# Altium footprint library simplex_3.PcbLib: 39 footprints (part 3 of 3)
Each footprint in its own frame and in the unit in brackets; x right, y up, seen from the top. Pads: shape width x height; smd on the part's side, far side on the other; paste and mask are expansions set on the pad; w line width, h text height; cw(c..) or ccw(c..) is an arc to the next point about the centre after c.
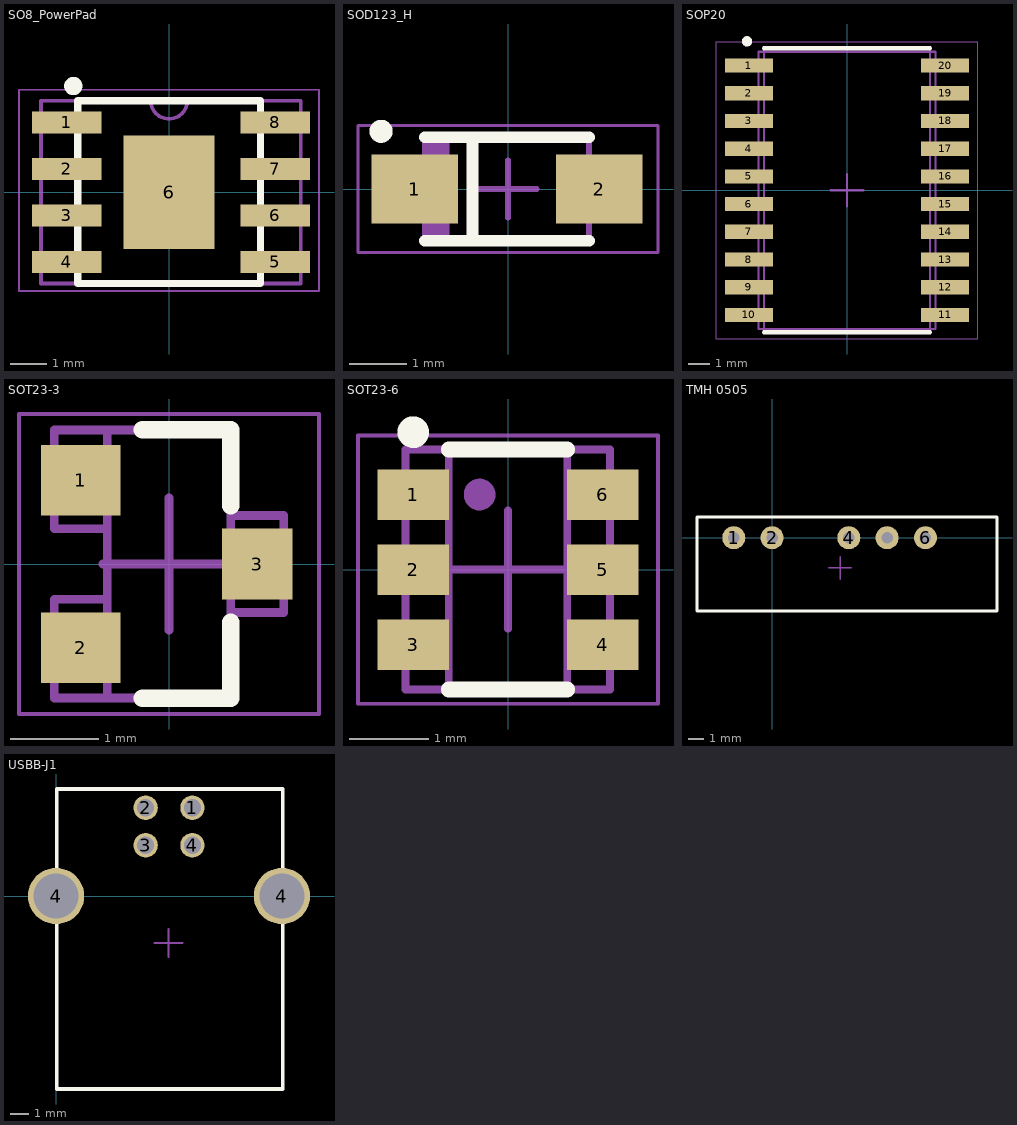
[diagram p2: the footprints below, top view; thin cyan lines are the x and y axes]

## SO8_PowerPad [mm]
pads (9):
  rect 1.9x0.6 smd: 1(-2.8,1.905) 2(-2.8,0.635) 3(-2.8,-0.635) 4(-2.8,-1.905) 5(2.9,-1.905) 6(2.9,-0.635) 7(2.9,0.635) 8(2.9,1.905)
  rect 2.49x3.1 smd: 6(0,0)
Top Overlay:
  circle w0.25: c-2.615,2.9 r0.125
  lines w0.2: -2.49,-2.5 -2.49,2.5 2.5,2.5 2.5,-2.5 -2.49,-2.5
Mechanical 9:
  text ".Designator" at -1,0.25 h1
  text ".Comment" at -1,-0.5 h0.8
Mechanical 11:
  lines w0.1: -2.5,-2.5 -2.5,2.5 ; -0.5,2.5 ccw(c0,2.5) 0.5,2.5 ; 2.5,-2.5 2.5,2.5 ; -3.5,-2.5 -3.5,2.5 3.6,2.5 3.6,-2.5 -3.5,-2.5
Mechanical 15:
  lines w0.05: -4.1,-2.7 4.1,-2.7 4.1,2.8 -4.1,2.8 -4.1,-2.7
  lines w0.1: -0.75,0 0.75,0 ; 0,-0.75 0,0.75
3D body: height 1.7, standoff 0, extent -3,-2.54 3,2.54

## SOD123_H [mm]
height 1.35
pads (2):
  rect 1.5x1.2 smd: 1(-1.62,0) 2(1.58,0)
Top Overlay:
  circle w0.2: c-2.2,1 r0.1
  lines w0.2: -1.445,-0.9 1.405,-0.9 ; -1.445,0.9 1.405,0.9 ; -0.615,-0.9 -0.615,0.9
Mechanical 9:
  text ".Designator" at -1,0.25 h1
  text ".Comment" at -1,-0.75 h0.8
Mechanical 11:
  lines w0.1: -1.445,-0.35 -1.945,-0.35 -1.945,0.35 -1.445,0.35 ; -1.35,-0.9 -1.35,0.9 ; -1.255,-0.9 -1.255,0.9 ; -1.16,-0.9 -1.16,0.9 ; -1.065,-0.9 -1.065,0.9 ; 1.405,-0.35 1.905,-0.35 1.905,0.35 1.405,0.35 ; -1.445,-0.9 -1.445,0.9 1.405,0.9 1.405,-0.9 -1.445,-0.9
Mechanical 15:
  lines w0.05: -2.6,-1.1 -2.6,1.1 2.6,1.1 2.6,-1.1 -2.6,-1.1
  lines w0.1: -0.5,0 0.5,0 ; 0,-0.5 0,0.5
3D body: height 1.35, standoff 0, extent -1.425,-0.9 1.425,0.9
3D body: height 0.5, standoff 0, extent -1.925,-0.35 -1.425,0.35
3D body: height 0.5, standoff 0, extent 1.425,-0.35 1.925,0.35

## SOP20 [mm]
pads (20):
  rect 2.2x0.65 smd: 1(-4.5,5.715) 2(-4.5,4.445) 3(-4.5,3.175) 4(-4.5,1.905) 5(-4.5,0.635) 6(-4.5,-0.635) 7(-4.5,-1.905) 8(-4.5,-3.175) 9(-4.5,-4.445) 10(-4.5,-5.715) 11(4.5,-5.715) 12(4.5,-4.445) 13(4.5,-3.175) 14(4.5,-1.905) 15(4.5,-0.635) 16(4.5,0.635) 17(4.5,1.905) 18(4.5,3.175) 19(4.5,4.445) 20(4.5,5.715)
Top Overlay:
  circle w0.254: c-4.581,6.825 r0.106
  lines w0.2: -3.8,-6.5 3.8,-6.5 ; -3.8,6.5 3.8,6.5
Mechanical 7:
  lines w0.1: -3.8,-6.5 -3.8,6.5 3.8,6.5 3.8,-6.5 -3.775,-6.5
Mechanical 9:
  text ".Comment" at -0.75,-0.5 h0.8
  text ".Designator" at -0.75,0.25 h1
Mechanical 11:
  lines w0.1: -4.05,-6.35 4.05,-6.35 4.05,6.35 -4.05,6.35 -4.05,-6.35
Mechanical 15:
  lines w0.05: -6,-6.8 6,-6.8 6,6.8 -6,6.8 -6,-6.8
  lines w0.1: -0.75,0 0.75,0 ; 0,-0.75 0,0.75
3D body: height 2, standoff 0, extent -4.05,-6.35 4.05,6.35

## SOT23-3 [mm]
height 1.12
pads (3):
  rect 0.9x0.8 smd: 1(-1,0.95) 2(-1,-0.95)
  rect 0.8x0.8 smd: 3(1,0)
Top Overlay:
  lines w0.2: -0.3,-1.52 0.7,-1.52 0.7,-0.66 ; -0.3,1.52 0.7,1.52 0.7,0.66
Mechanical 9:
  text ".Comment" at -0.75,-0.5 h0.8
  text ".Designator" at -0.75,0.25 h1
Mechanical 11:
  lines w0.1: -0.7,-1.52 -0.7,1.52 ; -0.7,-0.4 -1.3,-0.4 -1.3,-1.52 0.7,-1.52 0.7,1.52 -1.3,1.52 -1.3,0.4 -0.7,0.4 ; 0.7,-0.55 1.3,-0.55 1.3,0.55 0.7,0.55
Mechanical 15:
  lines w0.05: -1.7,-1.7 -1.7,1.7 1.7,1.7 1.7,-1.7 -1.7,-1.7
  lines w0.1: -0.75,0 0.75,0 ; 0,-0.75 0,0.75
3D body: height 1.1, standoff 0, extent -1.15,-1.5 1.15,1.5

## SOT23-6 [mm]
height 1.12
pads (6):
  rect 0.9x0.64 smd: 1(-1.2,0.95) 2(-1.2,0) 3(-1.2,-0.95) 4(1.2,-0.95) 5(1.2,0) 6(1.2,0.95)
Top Overlay:
  circle w0.2: c-1.2,1.74 r0.1
  lines w0.2: -0.75,-1.52 0.75,-1.52 ; -0.75,1.52 0.75,1.52
Mechanical 9:
  text ".Comment" at -1,-0.75 h0.8
  text ".Designator" at -1,0.25 h1
Mechanical 11:
  circle w0.2: c-0.36,0.95 r0.1
  lines w0.1: -0.75,-1.52 -0.75,1.52 ; 0.75,-1.52 0.75,1.52 ; -1.3,-1.52 1.29,-1.52 1.29,1.52 -1.3,1.52 -1.3,-1.52
Mechanical 15:
  lines w0.05: -1.9,-1.7 1.9,-1.7 1.9,1.7 -1.9,1.7 -1.9,-1.7
  lines w0.1: -0.75,0 0.75,0 ; 0,-0.75 0,0.75
3D body: height 1.09, standoff 0, extent -1.126,-1.397 1.3,1.397

## TMH 0505 [mil]
height 44.09
pads (5):
  round 60 hole 30: 1(-100,0) 2(0,0) 4(200,0) 6(400,0) ""(300,0)
Top Overlay:
  lines w7.87: -195.87,-190.94 -195.87,53.94 586.62,53.94 586.62,-190.94 -195.87,-190.94
Mechanical 9:
  text ".Comment" at 147.64,-108.27 h31.5
  text ".Designator" at 147.64,-68.9 h39.37
Mechanical 11:
  lines w3.94: -195.87,-190.94 586.62,-190.94 586.62,53.94 -195.87,53.94 -195.87,-190.94
Mechanical 15:
  lines w1.97: -195.87,-190.94 -195.87,53.94 586.62,53.94 586.62,-190.94 -195.87,-190.94
  lines w3.94: 147.64,-78.74 206.69,-78.74 ; 177.17,-108.27 177.17,-49.21
3D body: height 393.7, standoff -133.86, extent -198.86,-181 568.86,55.22

## USBB-J1 [mm]
pads (6):
  round 1.3 hole 0.92: 1(7.27,4.71) 2(4.77,4.71) 3(4.77,2.71) 4(7.27,2.71)
  round 3 hole 2.4: 4(0,0) 4(12.04,0)
Top Overlay:
  lines w0.2: 12.04,5.71 0.04,5.71 0.04,-10.29 12.08,-10.29 12.08,5.71
Mechanical 9:
  text ".Designator" at 5.25,-2.25 h1
  text ".Comment" at 5.25,-3.25 h0.8
Mechanical 11:
  lines w0.1: 12.04,5.71 0.04,5.71 0.04,-10.29 12.08,-10.29 12.08,5.71
Mechanical 15:
  lines w0.05: 12,5.71 0,5.71 0,-10.29 12.04,-10.29 12.04,5.71
  lines w0.1: 5.25,-2.5 6.75,-2.5 ; 6,-3.25 6,-1.75
3D body: height 11, standoff -3.64, extent -1.398,-10.3 13.4,6.2